# Altium schematic symbol library INA230AIRGTT.SchLib: 1 symbol
Pins are listed as number, name and electrical type; pins without a type are passive.

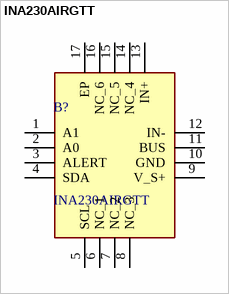
[diagram p0: symbol INA230AIRGTT]

## INA230AIRGTT
designator B?
28V, Bi-Directional, Low-/High-Side, I2C Out Current/Power Monitor w/Alert; Manufacturer_Name: Texas Instruments; Geometry.Height: 1mm; Manufacturer_Part_Number: INA230AIRGTT; Mouser Part Number: 595-INA230AIRGTT; Mouser Price/Stock: https://www.mouser.co.uk/ProductDetail/Texas-Instruments/INA230AIRGTT?qs=CKajpF%2FgJL%2Fl7EAtRODykg%3D%3D; Arrow Part Number: INA230AIRGTT; Arrow Price/Stock: https://www.arrow.com/en/products/ina230airgtt/texas-instruments?utm_currency=USD&region=nac; Datasheet Link: http://www.ti.com/lit/gpn/INA230
footprint QFN50P300X300X100-17N-D
pins: 1 A1, 2 A0, 3 ALERT, 4 SDA, 5 SCL, 6 NC_1, 7 NC_2, 8 NC_3, 9 V_S+, 10 GND, 11 BUS, 12 IN-, 13 IN+, 14 NC_4, 15 NC_5, 16 NC_6, 17 EP